# EAGLE library part TMUX1108PWR (library TMUX1108PWR)
Analog Switch ICs 5V / +/-2.5V, 8:1, low-leakage precision multiplexer 16-TSSOP -40 to 125 Source: Datasheet <http://www.ti.com/lit/ds/symlink/tmux1108.pdf>
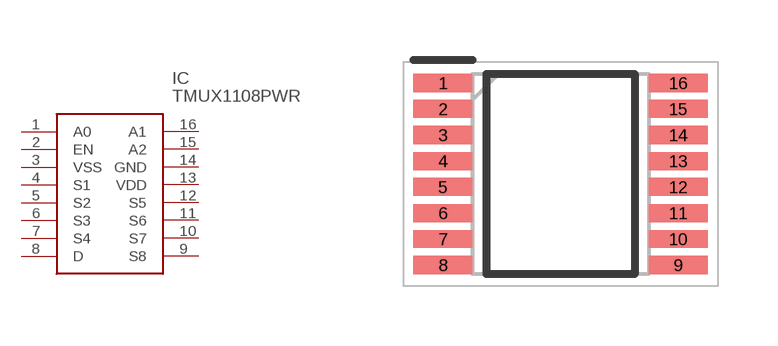
[diagram p0: symbol with the pads of SOP65P640X120-16N; footprint SOP65P640X120-16N]

Designator prefix IC

## TMUX1108PWR (Description: Analog Switch ICs 5V / +/-2.5V, 8:1, low-leakage precision multiplexer 16-TSSOP -40 to 125; Height: 1.2mm; Manufacturer_Name: Texas Instruments; Manufacturer_Part_Number: TMUX1108PWR; Mouser_Part_Number: 595-TMUX1108PWR; Mouser_Price-Stock: https://www.mouser.co.uk/ProductDetail/Texas-Instruments/TMUX1108PWR?qs=PqoDHHvF6486MXIgK4oQ5g%3D%3D)  [SOP65P640X120-16N]
1  A0
2  EN
3  VSS
4  S1
5  S2
6  S3
7  S4
8  D
9  S8
10  S7
11  S6
12  S5
13  VDD
14  GND
15  A2
16  A1

## Footprint SOP65P640X120-16N (pad centres in mm)
TMUX1108PWR-1
smd 1.475 x 0.45: 1 -2.938,2.275; 2 -2.938,1.625; 3 -2.938,0.975; 4 -2.938,0.325; 5 -2.938,-0.325; 6 -2.938,-0.975; 7 -2.938,-1.625; 8 -2.938,-2.275; 9 2.938,-2.275; 10 2.938,-1.625; 11 2.938,-0.975; 12 2.938,-0.325; 13 2.938,0.325; 14 2.938,0.975; 15 2.938,1.625; 16 2.938,2.275